# Altium footprint library AMP Footprints.PcbLib: 903 footprints (part 50 of 58)
Each footprint in its own frame and in the unit in brackets; x right, y up, seen from the top. Pads: shape width x height; smd on the part's side, far side on the other; paste and mask are expansions set on the pad; w line width, h text height; cw(c..) or ccw(c..) is an arc to the next point about the centre after c.
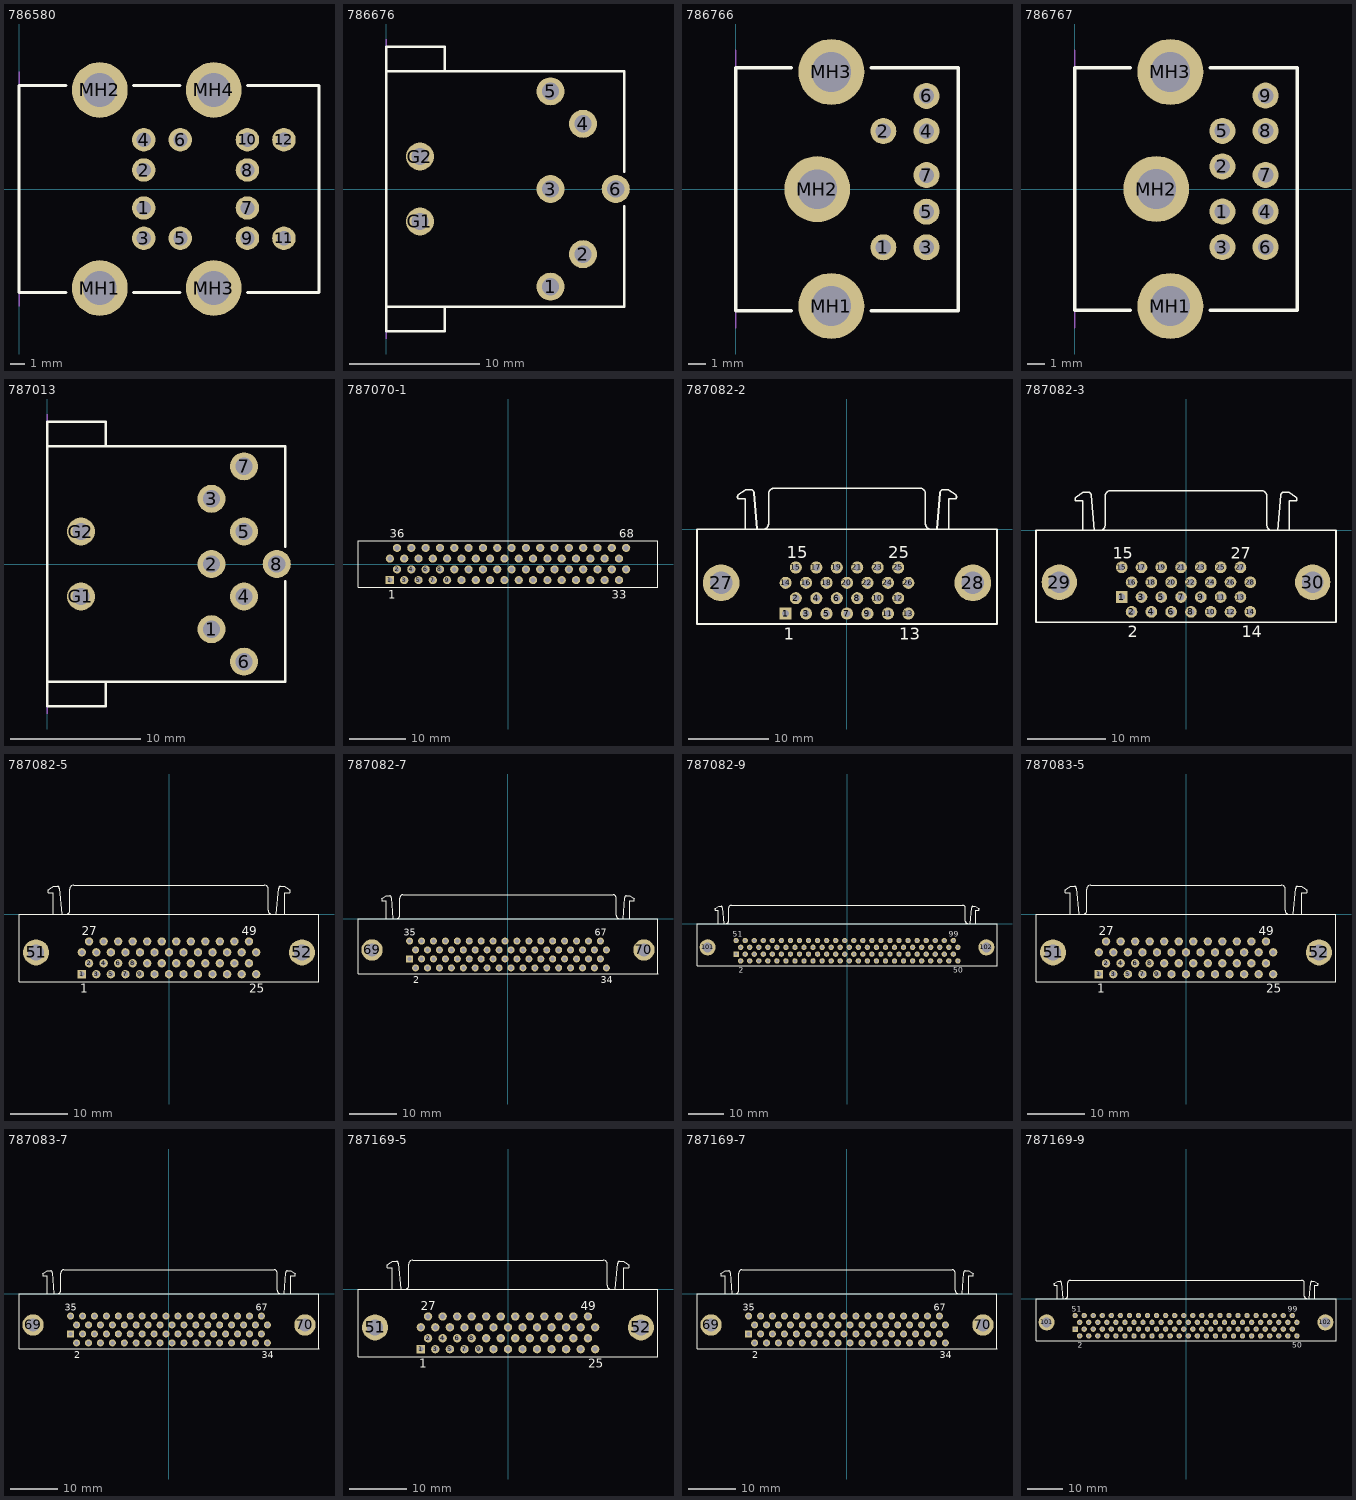
[diagram p49: the footprints below, top view; thin cyan lines are the x and y axes]

## 786580 [mm] "Connector; Circular DIN, Thru-Hole; 6x6 Position; Right Angle; Pitch 2.11/2.59 mm; Body 14.12 x 20.45 x 27.35 mm (WxTxH), Shielded"
height 27.35
pads (16):
  round 1.6 hole 0.97: 1(8.51,-1.295) 2(8.51,1.295) 3(8.51,-3.355) 4(8.51,3.355) 5(11,-3.355) 6(11,3.355) 7(15.57,-1.295) 8(15.57,1.295) 9(15.57,-3.355) 10(15.57,3.355) 11(18.06,-3.355) 12(18.06,3.355)
  round 3.8 hole 2.29: MH1(5.51,-6.75) MH2(5.51,6.75) MH3(13.28,-6.75) MH4(13.28,6.75)
Top Overlay:
  lines w0.2: 3.21,-7.06 0,-7.06 0,7.06 3.21,7.06 ; 7.81,-7.06 10.98,-7.06 ; 7.81,7.06 10.98,7.06 ; 15.58,-7.06 20.45,-7.06 20.45,7.06 15.58,7.06
Mechanical 1:
  lines w0.1: 0,-8 0,8
  text "PCB Edge" at 0.6,-6.7 h0.25

## 786676 [mm] "Connector; Circular DIN, Thru-Hole; 6 Position; Right Angle; Pitch 2.49/2.51 mm; Body 18.03 x 18.26 x 20.83 mm (WxTxH), Shielded, Front panel grounding fingers"
height 20.83
pads (8):
  round 2.15 hole 1.32: 1(12.6,-7.49) 2(15.09,-5) 3(12.6,0) 4(15.09,5) 5(12.6,7.49) 6(17.6,0) G1(2.59,-2.49) G2(2.59,2.49)
Top Overlay:
  lines w0.2: 4.5,-9.015 4.5,-10.92 0,-10.92 0,-9.015 ; 4.5,9.015 4.5,10.92 0,10.92 0,9.015 ; 18.26,-1.33 18.26,-9.015 0,-9.015 ; 18.26,1.33 18.26,9.015 0,9.015 ; 0,-9.015 0,9.015
Mechanical 1:
  lines w0.1: 0,-11.5 0,11.5
  text "PCB Edge" at 0.6,-8.6 h0.25

## 786766 [mm] "Connector; Circular DIN, Thru-Hole; 7 Position; Right Angle; Pitch 2.05/2.6 mm; Body 14 x 12.83 x 13 mm (WxTxH), Shielded, Special PCB Retention"
height 13
pads (10):
  round 1.5 hole 0.89: 1(8.51,-3.35) 2(8.51,3.35) 3(11,-3.35) 4(11,3.35) 5(11,-1.3) 6(11,5.38) 7(11,0.81)
  round 3.8 hole 2.29: MH1(5.51,-6.74) MH2(4.7,0) MH3(5.51,6.76)
Top Overlay:
  lines w0.2: 3.21,-7 0,-7 0,7 3.21,7 ; 7.81,-7 12.83,-7 12.83,7 7.81,7
Mechanical 1:
  lines w0.1: 0,-8 0,8
  text "PCB Edge" at 0.6,-6.7 h0.25

## 786767 [mm] "Connector; Circular DIN, Thru-Hole; 9 Position; Right Angle; Pitch 2.05/2.6 mm; Body 14 x 12.83 x 13 mm (WxTxH), Shielded, Special PCB Retention"
height 13
pads (12):
  round 1.5 hole 0.89: 1(8.51,-1.3) 2(8.51,1.3) 3(8.51,-3.35) 4(11,-1.3) 5(8.51,3.35) 6(11,-3.35) 7(11,0.81) 8(11,3.35) 9(11,5.38)
  round 3.8 hole 2.29: MH1(5.51,-6.745) MH2(4.7,0) MH3(5.51,6.745)
Top Overlay:
  lines w0.2: 3.21,-7 0,-7 0,7 3.21,7 ; 7.81,-7 12.83,-7 12.83,7 7.81,7
Mechanical 1:
  lines w0.1: 0,-8 0,8
  text "PCB Edge" at 0.6,-6.6 h0.25

## 787013 [mm] "Connector; Circular DIN, Thru-Hole; 8 Position; Right Angle; Pitch 2.49/2.51 mm; Body 18.03 x 18.26 x 20.83 mm (WxTxH), Shielded, Front panel grounding fingers"
height 20.83
pads (10):
  round 2.15 hole 1.32: 1(12.6,-5) 2(12.6,0) 3(12.6,5) 4(15.09,-2.49) 5(15.09,2.49) 6(15.09,-7.49) 7(15.09,7.49) 8(17.6,0) G1(2.59,-2.49) G2(2.59,2.49)
Top Overlay:
  lines w0.2: 4.5,-9.015 4.5,-10.92 0,-10.92 0,-9.015 ; 4.5,9.015 4.5,10.92 0,10.92 0,9.015 ; 18.26,-1.33 18.26,-9.015 0,-9.015 ; 18.26,1.33 18.26,9.015 0,9.015 ; 0,-9.015 0,9.015
Mechanical 1:
  lines w0.1: 0,-11.5 0,11.5
  text "PCB Edge" at 0.6,-8.6 h0.25

## 787070-1 [mm] "Connector; D Subminiature 050 Series; 68 Position; Vertical"
height 14.58
pads (68):
  rect 1.46x1.46 hole 0.86: 1(-20.955,-2.857)
  round 1.46 hole 0.86: 2(-19.685,-0.953) 3(-18.415,-2.857) 4(-17.145,-0.953) 5(-15.875,-2.857) 6(-14.605,-0.953) 7(-13.335,-2.857) 8(-12.065,-0.953) 9(-10.795,-2.857) 10(-9.525,-0.953) 11(-8.255,-2.857) 12(-6.985,-0.953) 13(-5.715,-2.857) 14(-4.445,-0.953) 15(-3.175,-2.857) 16(-1.905,-0.953) 17(-0.635,-2.857) 18(0.635,-0.953) 19(1.905,-2.857) 20(3.175,-0.953) 21(4.445,-2.857) 22(5.715,-0.953) 23(6.985,-2.857) 24(8.255,-0.953) 25(9.525,-2.857) 26(10.795,-0.953) 27(12.065,-2.857) 28(13.335,-0.953) 29(14.605,-2.857) 30(15.875,-0.953) 31(17.145,-2.857) 32(18.415,-0.953) 33(19.685,-2.857) 34(20.955,-0.953) 35(-20.955,0.953) 36(-19.685,2.857) 37(-18.415,0.953) 38(-17.145,2.857) 39(-15.875,0.953) 40(-14.605,2.857) 41(-13.335,0.953) 42(-12.065,2.857) 43(-10.795,0.953) 44(-9.525,2.857) 45(-8.255,0.953) 46(-6.985,2.857) 47(-5.715,0.953) 48(-4.445,2.857) 49(-3.175,0.953) 50(-1.905,2.857) 51(-0.635,0.953) 52(0.635,2.857) 53(1.905,0.953) 54(3.175,2.857) 55(4.445,0.953) 56(5.715,2.857) 57(6.985,0.953) 58(8.255,2.857) 59(9.525,0.953) 60(10.795,2.857) 61(12.065,0.953) 62(13.335,2.857) 63(14.605,0.953) 64(15.875,2.857) 65(17.145,0.953) 66(18.415,2.857) 67(19.685,0.953) 68(20.955,2.857)
Top Overlay:
  lines w0.2: -26.605,-4.157 -26.605,4.157 26.605,4.157 26.605,-4.157 -26.605,-4.157
  text "68" at 19.705,4.633 h1.5
  text "36" at -20.935,4.633 h1.5
  text "33" at 18.435,-6.132 h1.5
  text "1" at -21.205,-6.132 h1.5

## 787082-2 [mm] "Connector; D Subminiature 050 Series; 26 Position; Right Angle"
height 10.44
pads (28):
  rect 1.5x1.5 hole 0.86: 1(-7.62,-10.46)
  round 1.5 hole 0.86: 2(-6.35,-8.555) 3(-5.08,-10.46) 4(-3.81,-8.555) 5(-2.54,-10.46) 6(-1.27,-8.555) 7(0,-10.46) 8(1.27,-8.555) 9(2.54,-10.46) 10(3.81,-8.555) 11(5.08,-10.46) 12(6.35,-8.555) 13(7.62,-10.46) 14(-7.62,-6.65) 15(-6.35,-4.745) 16(-5.08,-6.65) 17(-3.81,-4.745) 18(-2.54,-6.65) 19(-1.27,-4.745) 20(0,-6.65) 21(1.27,-4.745) 22(2.54,-6.65) 23(3.81,-4.745) 24(5.08,-6.65) 25(6.35,-4.745) 26(7.62,-6.65)
  round 4.55 hole 2.77: 27(-15.62,-6.65) 28(15.62,-6.65)
Top Overlay:
  lines w0.2: -13.505,4.27 -12.565,4.898 -11.843,4.898 cw(c-11.945,4.5) -11.535,4.5 ; -13.491,4.255 ccw(c-13.265,4.01) -13.515,3.79 -12.635,3.79 -12.635,0 ; -11.535,4.52 -11.165,0 ; -10.425,0.005 ccw(c-10.425,0.7) -9.73,0.7 -9.73,4.4 cw(c-9.035,4.4) -9.035,5.095 ; -9.035,5.11 9.035,5.11 ; 9.035,5.105 cw(c9.035,4.41) 9.73,4.41 9.73,0.7 ccw(c10.425,0.7) 10.425,0.005 ; 11.165,0 11.535,4.52 ; 11.535,4.5 cw(c11.945,4.5) 11.843,4.898 12.565,4.898 13.505,4.27 ; 12.635,0 12.635,3.79 13.515,3.79 ccw(c13.265,4.01) 13.491,4.255 ; -18.615,-11.76 -18.615,0 18.615,0 18.615,-11.76 -18.615,-11.76
  text "25" at 5.1,-3.62 h1.5
  text "15" at -7.475,-3.62 h1.5
  text "13" at 6.495,-13.735 h1.5
  text "1" at -7.87,-13.735 h1.5

## 787082-3 [mm] "Connector; D Subminiature 050 Series; 28 Position; Right Angle"
height 10.44
pads (30):
  rect 1.5x1.5 hole 0.86: 1(-8.255,-8.555)
  round 1.5 hole 0.86: 2(-6.985,-10.46) 3(-5.715,-8.555) 4(-4.445,-10.46) 5(-3.175,-8.555) 6(-1.905,-10.46) 7(-0.635,-8.555) 8(0.635,-10.46) 9(1.905,-8.555) 10(3.175,-10.46) 11(4.445,-8.555) 12(5.715,-10.46) 13(6.985,-8.555) 14(8.255,-10.46) 15(-8.255,-4.745) 16(-6.985,-6.65) 17(-5.715,-4.745) 18(-4.445,-6.65) 19(-3.175,-4.745) 20(-1.905,-6.65) 21(-0.635,-4.745) 22(0.635,-6.65) 23(1.905,-4.745) 24(3.175,-6.65) 25(4.445,-4.745) 26(5.715,-6.65) 27(6.985,-4.745) 28(8.255,-6.65)
  round 4.55 hole 2.77: 29(-16.255,-6.65) 30(16.255,-6.65)
Top Overlay:
  lines w0.2: -14.14,4.27 -13.2,4.898 -12.478,4.898 cw(c-12.58,4.5) -12.17,4.5 ; -14.126,4.255 ccw(c-13.9,4.01) -14.15,3.79 -13.27,3.79 -13.27,0 ; -12.17,4.52 -11.8,0 ; -11.06,0.005 ccw(c-11.06,0.7) -10.365,0.7 -10.365,4.41 cw(c-9.67,4.41) -9.67,5.105 ; -9.67,5.11 9.67,5.11 ; 9.67,5.105 cw(c9.67,4.41) 10.365,4.41 10.365,0.7 ccw(c11.06,0.7) 11.06,0.005 ; 11.8,0 12.17,4.52 ; 12.17,4.5 cw(c12.58,4.5) 12.478,4.898 13.2,4.898 14.14,4.27 ; 13.27,0 13.27,3.79 14.15,3.79 ccw(c13.9,4.01) 14.126,4.255 ; -19.25,-11.76 -19.25,0 19.25,0 19.25,-11.76 -19.25,-11.76
  text "27" at 5.735,-3.62 h1.5
  text "15" at -9.38,-3.62 h1.5
  text "14" at 7.13,-13.735 h1.5
  text "2" at -7.485,-13.735 h1.5

## 787082-5 [mm] "Connector; D Subminiature 050 Series; 50 Position; Right Angle"
height 10.44
pads (52):
  rect 1.46x1.46 hole 0.86: 1(-15.24,-10.46)
  round 1.46 hole 0.86: 2(-13.97,-8.555) 3(-12.7,-10.46) 4(-11.43,-8.555) 5(-10.16,-10.46) 6(-8.89,-8.555) 7(-7.62,-10.46) 8(-6.35,-8.555) 9(-5.08,-10.46) 10(-3.81,-8.555) 11(-2.54,-10.46) 12(-1.27,-8.555) 13(0,-10.46) 14(1.27,-8.555) 15(2.54,-10.46) 16(3.81,-8.555) 17(5.08,-10.46) 18(6.35,-8.555) 19(7.62,-10.46) 20(8.89,-8.555) 21(10.16,-10.46) 22(11.43,-8.555) 23(12.7,-10.46) 24(13.97,-8.555) 25(15.24,-10.46) 26(-15.24,-6.65) 27(-13.97,-4.745) 28(-12.7,-6.65) 29(-11.43,-4.745) 30(-10.16,-6.65) 31(-8.89,-4.745) 32(-7.62,-6.65) 33(-6.35,-4.745) 34(-5.08,-6.65) 35(-3.81,-4.745) 36(-2.54,-6.65) 37(-1.27,-4.745) 38(0,-6.65) 39(1.27,-4.745) 40(2.54,-6.65) 41(3.81,-4.745) 42(5.08,-6.65) 43(6.35,-4.745) 44(7.62,-6.65) 45(8.89,-4.745) 46(10.16,-6.65) 47(11.43,-4.745) 48(12.7,-6.65) 49(13.97,-4.745) 50(15.24,-6.65)
  round 4.55 hole 2.77: 51(-23.24,-6.65) 52(23.24,-6.65)
Top Overlay:
  lines w0.2: -21.125,4.27 -20.185,4.898 -19.463,4.898 cw(c-19.565,4.5) -19.155,4.5 ; -21.111,4.255 ccw(c-20.885,4.01) -21.135,3.79 -20.255,3.79 -20.255,0 ; -19.155,4.52 -18.785,0 ; -18.045,0.015 ccw(c-18.045,0.71) -17.35,0.71 -17.35,4.41 ; -17.345,4.415 cw(c-16.65,4.415) -16.65,5.11 16.65,5.11 cw(c16.65,4.415) 17.345,4.415 ; 17.35,4.41 17.35,0.71 ccw(c18.045,0.71) 18.045,0.015 ; 18.785,0 19.155,4.52 ; 19.155,4.5 cw(c19.565,4.5) 19.463,4.898 20.185,4.898 21.125,4.27 ; 20.255,0 20.255,3.79 21.135,3.79 ccw(c20.885,4.01) 21.111,4.255 ; -26.225,-11.76 -26.225,0 26.225,0 26.225,-11.76 -26.225,-11.76
  text "1" at -15.49,-13.735 h1.5
  text "25" at 13.99,-13.735 h1.5
  text "27" at -15.22,-3.64 h1.5
  text "49" at 12.72,-3.64 h1.5

## 787082-7 [mm] "Connector; D Subminiature 050 Series; 68 Position; Right Angle"
height 10.44
pads (70):
  rect 1.5x1.5 hole 0.86: 1(-20.955,-8.555)
  round 1.5 hole 0.86: 2(-19.685,-10.46) 3(-18.415,-8.555) 4(-17.145,-10.46) 5(-15.875,-8.555) 6(-14.605,-10.46) 7(-13.335,-8.555) 8(-12.065,-10.46) 9(-10.795,-8.555) 10(-9.525,-10.46) 11(-8.255,-8.555) 12(-6.985,-10.46) 13(-5.715,-8.555) 14(-4.445,-10.46) 15(-3.175,-8.555) 16(-1.905,-10.46) 17(-0.635,-8.555) 18(0.635,-10.46) 19(1.905,-8.555) 20(3.175,-10.46) 21(4.445,-8.555) 22(5.715,-10.46) 23(6.985,-8.555) 24(8.255,-10.46) 25(9.525,-8.555) 26(10.795,-10.46) 27(12.065,-8.555) 28(13.335,-10.46) 29(14.605,-8.555) 30(15.875,-10.46) 31(17.145,-8.555) 32(18.415,-10.46) 33(19.685,-8.555) 34(20.955,-10.46) 35(-20.955,-4.745) 36(-19.685,-6.65) 37(-18.415,-4.745) 38(-17.145,-6.65) 39(-15.875,-4.745) 40(-14.605,-6.65) 41(-13.335,-4.745) 42(-12.065,-6.65) 43(-10.795,-4.745) 44(-9.525,-6.65) 45(-8.255,-4.745) 46(-6.985,-6.65) 47(-5.715,-4.745) 48(-4.445,-6.65) 49(-3.175,-4.745) 50(-1.905,-6.65) 51(-0.635,-4.745) 52(0.635,-6.65) 53(1.905,-4.745) 54(3.175,-6.65) 55(4.445,-4.745) 56(5.715,-6.65) 57(6.985,-4.745) 58(8.255,-6.65) 59(9.525,-4.745) 60(10.795,-6.65) 61(12.065,-4.745) 62(13.335,-6.65) 63(14.605,-4.745) 64(15.875,-6.65) 65(17.145,-4.745) 66(18.415,-6.65) 67(19.685,-4.745) 68(20.955,-6.65)
  round 4.55 hole 2.77: 69(-28.955,-6.65) 70(28.955,-6.65)
Top Overlay:
  lines w0.2: -26.84,4.27 -25.9,4.898 -25.178,4.898 cw(c-25.28,4.5) -24.87,4.5 ; -26.826,4.255 ccw(c-26.6,4.01) -26.85,3.79 -25.97,3.79 -25.97,0 ; -24.87,4.52 -24.5,0 ; -23.76,0.005 ccw(c-23.76,0.7) -23.065,0.7 -23.065,4.4 cw(c-22.37,4.4) -22.37,5.095 ; -22.37,5.11 22.37,5.11 ; 22.37,5.095 cw(c22.37,4.4) 23.065,4.4 23.065,0.7 ccw(c23.76,0.7) 23.76,0.005 ; 24.5,0 24.87,4.52 ; 24.87,4.5 cw(c25.28,4.5) 25.178,4.898 25.9,4.898 26.84,4.27 ; 25.97,0 25.97,3.79 26.85,3.79 ccw(c26.6,4.01) 26.826,4.255 ; -31.95,-11.76 31.95,-11.76 31.95,0 -31.95,0 -31.95,-11.76
  text "2" at -20.185,-13.735 h1.5
  text "34" at 19.705,-13.735 h1.5
  text "67" at 18.435,-3.62 h1.5
  text "35" at -22.205,-3.62 h1.5

## 787082-9 [mm] "Connector; D Subminiature 050 Series; 100 Position; Right Angle"
height 10.44
pads (102):
  rect 1.5x1.5 hole 0.86: 1(-31.115,-8.555)
  round 1.5 hole 0.86: 2(-29.845,-10.46) 3(-28.575,-8.555) 4(-27.305,-10.46) 5(-26.035,-8.555) 6(-24.765,-10.46) 7(-23.495,-8.555) 8(-22.225,-10.46) 9(-20.955,-8.555) 10(-19.685,-10.46) 11(-18.415,-8.555) 12(-17.145,-10.46) 13(-15.875,-8.555) 14(-14.605,-10.46) 15(-13.335,-8.555) 16(-12.065,-10.46) 17(-10.795,-8.555) 18(-9.525,-10.46) 19(-8.255,-8.555) 20(-6.985,-10.46) 21(-5.715,-8.555) 22(-4.445,-10.46) 23(-3.175,-8.555) 24(-1.905,-10.46) 25(-0.635,-8.555) 26(0.635,-10.46) 27(1.905,-8.555) 28(3.175,-10.46) 29(4.445,-8.555) 30(5.715,-10.46) 31(6.985,-8.555) 32(8.255,-10.46) 33(9.525,-8.555) 34(10.795,-10.46) 35(12.065,-8.555) 36(13.335,-10.46) 37(14.605,-8.555) 38(15.875,-10.46) 39(17.145,-8.555) 40(18.415,-10.46) 41(19.685,-8.555) 42(20.955,-10.46) 43(22.225,-8.555) 44(23.495,-10.46) 45(24.765,-8.555) 46(26.035,-10.46) 47(27.305,-8.555) 48(28.575,-10.46) 49(29.845,-8.555) 50(31.115,-10.46) 51(-31.115,-4.745) 52(-29.845,-6.65) 53(-28.575,-4.745) 54(-27.305,-6.65) 55(-26.035,-4.745) 56(-24.765,-6.65) 57(-23.495,-4.745) 58(-22.225,-6.65) 59(-20.955,-4.745) 60(-19.685,-6.65) 61(-18.415,-4.745) 62(-17.145,-6.65) 63(-15.875,-4.745) 64(-14.605,-6.65) 65(-13.335,-4.745) 66(-12.065,-6.65) 67(-10.795,-4.745) 68(-9.525,-6.65) 69(-8.255,-4.745) 70(-6.985,-6.65) 71(-5.715,-4.745) 72(-4.445,-6.65) 73(-3.175,-4.745) 74(-1.905,-6.65) 75(-0.635,-4.745) 76(0.635,-6.65) 77(1.905,-4.745) 78(3.175,-6.65) 79(4.445,-4.745) 80(5.715,-6.65) 81(6.985,-4.745) 82(8.255,-6.65) 83(9.525,-4.745) 84(10.795,-6.65) 85(12.065,-4.745) 86(13.335,-6.65) 87(14.605,-4.745) 88(15.875,-6.65) 89(17.145,-4.745) 90(18.415,-6.65) 91(19.685,-4.745) 92(20.955,-6.65) 93(22.225,-4.745) 94(23.495,-6.65) 95(24.765,-4.745) 96(26.035,-6.65) 97(27.305,-4.745) 98(28.575,-6.65) 99(29.845,-4.745) 100(31.115,-6.65)
  round 4.55 hole 2.77: 101(-39.115,-6.65) 102(39.115,-6.65)
Top Overlay:
  lines w0.2: -37,4.27 -36.06,4.898 -35.338,4.898 cw(c-35.44,4.5) -35.03,4.5 ; -36.986,4.255 ccw(c-36.76,4.01) -37.01,3.79 -36.13,3.79 -36.13,0 ; -35.03,4.52 -34.66,0 ; -33.92,0.005 ccw(c-33.92,0.7) -33.225,0.7 -33.225,4.415 cw(c-32.53,4.415) -32.53,5.11 32.53,5.11 cw(c32.53,4.415) 33.225,4.415 33.225,0.7 ccw(c33.92,0.7) 33.92,0.005 ; 34.66,0 35.03,4.52 ; 35.03,4.5 cw(c35.44,4.5) 35.338,4.898 36.06,4.898 37,4.27 ; 36.13,0 36.13,3.79 37.01,3.79 ccw(c36.76,4.01) 36.986,4.255 ; -42.1,-11.76 -42.1,0 42.1,0 42.1,-11.76 -42.1,-11.76
  text "2" at -30.345,-13.735 h1.5
  text "50" at 29.865,-13.735 h1.5
  text "51" at -32.115,-3.62 h1.5
  text "99" at 28.595,-3.62 h1.5

## 787083-5 [mm] "Connector; D Subminiature 050 Series; 50 Position; Right Angle"
height 10.44
pads (52):
  rect 1.46x1.46 hole 0.86: 1(-15.24,-10.46)
  round 1.46 hole 0.86: 2(-13.97,-8.555) 3(-12.7,-10.46) 4(-11.43,-8.555) 5(-10.16,-10.46) 6(-8.89,-8.555) 7(-7.62,-10.46) 8(-6.35,-8.555) 9(-5.08,-10.46) 10(-3.81,-8.555) 11(-2.54,-10.46) 12(-1.27,-8.555) 13(0,-10.46) 14(1.27,-8.555) 15(2.54,-10.46) 16(3.81,-8.555) 17(5.08,-10.46) 18(6.35,-8.555) 19(7.62,-10.46) 20(8.89,-8.555) 21(10.16,-10.46) 22(11.43,-8.555) 23(12.7,-10.46) 24(13.97,-8.555) 25(15.24,-10.46) 26(-15.24,-6.65) 27(-13.97,-4.745) 28(-12.7,-6.65) 29(-11.43,-4.745) 30(-10.16,-6.65) 31(-8.89,-4.745) 32(-7.62,-6.65) 33(-6.35,-4.745) 34(-5.08,-6.65) 35(-3.81,-4.745) 36(-2.54,-6.65) 37(-1.27,-4.745) 38(0,-6.65) 39(1.27,-4.745) 40(2.54,-6.65) 41(3.81,-4.745) 42(5.08,-6.65) 43(6.35,-4.745) 44(7.62,-6.65) 45(8.89,-4.745) 46(10.16,-6.65) 47(11.43,-4.745) 48(12.7,-6.65) 49(13.97,-4.745) 50(15.24,-6.65)
  round 4.55 hole 2.77: 51(-23.24,-6.65) 52(23.24,-6.65)
Top Overlay:
  lines w0.2: -21.125,4.27 -20.185,4.898 -19.463,4.898 cw(c-19.565,4.5) -19.155,4.5 ; -21.111,4.255 ccw(c-20.885,4.01) -21.135,3.79 -20.255,3.79 -20.255,0 ; -19.155,4.52 -18.785,0 ; -18.045,0.015 ccw(c-18.045,0.71) -17.35,0.71 -17.35,4.41 ; -17.345,4.415 cw(c-16.65,4.415) -16.65,5.11 16.65,5.11 cw(c16.65,4.415) 17.345,4.415 ; 17.35,4.41 17.35,0.71 ccw(c18.045,0.71) 18.045,0.015 ; 18.785,0 19.155,4.52 ; 19.155,4.5 cw(c19.565,4.5) 19.463,4.898 20.185,4.898 21.125,4.27 ; 20.255,0 20.255,3.79 21.135,3.79 ccw(c20.885,4.01) 21.111,4.255 ; -26.225,-11.76 -26.225,0 26.225,0 26.225,-11.76 -26.225,-11.76
  text "1" at -15.49,-13.735 h1.5
  text "25" at 13.99,-13.735 h1.5
  text "27" at -15.22,-3.64 h1.5
  text "49" at 12.72,-3.64 h1.5

## 787083-7 [mm] "Connector; D Subminiature 050 Series; 68 Position; Right Angle"
height 10.44
pads (70):
  rect 1.5x1.5 hole 0.86: 1(-20.955,-8.555)
  round 1.5 hole 0.86: 2(-19.685,-10.46) 3(-18.415,-8.555) 4(-17.145,-10.46) 5(-15.875,-8.555) 6(-14.605,-10.46) 7(-13.335,-8.555) 8(-12.065,-10.46) 9(-10.795,-8.555) 10(-9.525,-10.46) 11(-8.255,-8.555) 12(-6.985,-10.46) 13(-5.715,-8.555) 14(-4.445,-10.46) 15(-3.175,-8.555) 16(-1.905,-10.46) 17(-0.635,-8.555) 18(0.635,-10.46) 19(1.905,-8.555) 20(3.175,-10.46) 21(4.445,-8.555) 22(5.715,-10.46) 23(6.985,-8.555) 24(8.255,-10.46) 25(9.525,-8.555) 26(10.795,-10.46) 27(12.065,-8.555) 28(13.335,-10.46) 29(14.605,-8.555) 30(15.875,-10.46) 31(17.145,-8.555) 32(18.415,-10.46) 33(19.685,-8.555) 34(20.955,-10.46) 35(-20.955,-4.745) 36(-19.685,-6.65) 37(-18.415,-4.745) 38(-17.145,-6.65) 39(-15.875,-4.745) 40(-14.605,-6.65) 41(-13.335,-4.745) 42(-12.065,-6.65) 43(-10.795,-4.745) 44(-9.525,-6.65) 45(-8.255,-4.745) 46(-6.985,-6.65) 47(-5.715,-4.745) 48(-4.445,-6.65) 49(-3.175,-4.745) 50(-1.905,-6.65) 51(-0.635,-4.745) 52(0.635,-6.65) 53(1.905,-4.745) 54(3.175,-6.65) 55(4.445,-4.745) 56(5.715,-6.65) 57(6.985,-4.745) 58(8.255,-6.65) 59(9.525,-4.745) 60(10.795,-6.65) 61(12.065,-4.745) 62(13.335,-6.65) 63(14.605,-4.745) 64(15.875,-6.65) 65(17.145,-4.745) 66(18.415,-6.65) 67(19.685,-4.745) 68(20.955,-6.65)
  round 4.55 hole 2.77: 69(-28.955,-6.65) 70(28.955,-6.65)
Top Overlay:
  lines w0.2: -26.84,4.27 -25.9,4.898 -25.178,4.898 cw(c-25.28,4.5) -24.87,4.5 ; -26.826,4.255 ccw(c-26.6,4.01) -26.85,3.79 -25.97,3.79 -25.97,0 ; -24.87,4.52 -24.5,0 ; -23.76,0.005 ccw(c-23.76,0.7) -23.065,0.7 -23.065,4.4 cw(c-22.37,4.4) -22.37,5.095 ; -22.37,5.11 22.37,5.11 ; 22.37,5.095 cw(c22.37,4.4) 23.065,4.4 23.065,0.7 ccw(c23.76,0.7) 23.76,0.005 ; 24.5,0 24.87,4.52 ; 24.87,4.5 cw(c25.28,4.5) 25.178,4.898 25.9,4.898 26.84,4.27 ; 25.97,0 25.97,3.79 26.85,3.79 ccw(c26.6,4.01) 26.826,4.255 ; -31.95,-11.76 31.95,-11.76 31.95,0 -31.95,0 -31.95,-11.76
  text "2" at -20.185,-13.735 h1.5
  text "34" at 19.705,-13.735 h1.5
  text "67" at 18.435,-3.62 h1.5
  text "35" at -22.205,-3.62 h1.5

## 787169-5 [mm] "Connector; D Subminiature 050 Series; 50 Position; Right Angle"
height 10.44
pads (52):
  rect 1.46x1.46 hole 0.86: 1(-15.24,-10.46)
  round 1.46 hole 0.86: 2(-13.97,-8.555) 3(-12.7,-10.46) 4(-11.43,-8.555) 5(-10.16,-10.46) 6(-8.89,-8.555) 7(-7.62,-10.46) 8(-6.35,-8.555) 9(-5.08,-10.46) 10(-3.81,-8.555) 11(-2.54,-10.46) 12(-1.27,-8.555) 13(0,-10.46) 14(1.27,-8.555) 15(2.54,-10.46) 16(3.81,-8.555) 17(5.08,-10.46) 18(6.35,-8.555) 19(7.62,-10.46) 20(8.89,-8.555) 21(10.16,-10.46) 22(11.43,-8.555) 23(12.7,-10.46) 24(13.97,-8.555) 25(15.24,-10.46) 26(-15.24,-6.65) 27(-13.97,-4.745) 28(-12.7,-6.65) 29(-11.43,-4.745) 30(-10.16,-6.65) 31(-8.89,-4.745) 32(-7.62,-6.65) 33(-6.35,-4.745) 34(-5.08,-6.65) 35(-3.81,-4.745) 36(-2.54,-6.65) 37(-1.27,-4.745) 38(0,-6.65) 39(1.27,-4.745) 40(2.54,-6.65) 41(3.81,-4.745) 42(5.08,-6.65) 43(6.35,-4.745) 44(7.62,-6.65) 45(8.89,-4.745) 46(10.16,-6.65) 47(11.43,-4.745) 48(12.7,-6.65) 49(13.97,-4.745) 50(15.24,-6.65)
  round 4.55 hole 2.77: 51(-23.24,-6.65) 52(23.24,-6.65)
Top Overlay:
  lines w0.2: -21.125,4.27 -20.185,4.898 -19.463,4.898 cw(c-19.565,4.5) -19.155,4.5 ; -21.111,4.255 ccw(c-20.885,4.01) -21.135,3.79 -20.255,3.79 -20.255,0 ; -19.155,4.52 -18.785,0 ; -18.045,0.015 ccw(c-18.045,0.71) -17.35,0.71 -17.35,4.41 ; -17.345,4.415 cw(c-16.65,4.415) -16.65,5.11 16.65,5.11 cw(c16.65,4.415) 17.345,4.415 ; 17.35,4.41 17.35,0.71 ccw(c18.045,0.71) 18.045,0.015 ; 18.785,0 19.155,4.52 ; 19.155,4.5 cw(c19.565,4.5) 19.463,4.898 20.185,4.898 21.125,4.27 ; 20.255,0 20.255,3.79 21.135,3.79 ccw(c20.885,4.01) 21.111,4.255 ; -26.225,-11.76 -26.225,0 26.225,0 26.225,-11.76 -26.225,-11.76
  text "1" at -15.49,-13.735 h1.5
  text "25" at 13.99,-13.735 h1.5
  text "27" at -15.22,-3.64 h1.5
  text "49" at 12.72,-3.64 h1.5

## 787169-7 [mm] "Connector; D Subminiature 050 Series; 68 Position; Right Angle"
height 10.44
pads (70):
  rect 1.5x1.5 hole 0.86: 1(-20.955,-8.555)
  round 1.5 hole 0.86: 2(-19.685,-10.46) 3(-18.415,-8.555) 4(-17.145,-10.46) 5(-15.875,-8.555) 6(-14.605,-10.46) 7(-13.335,-8.555) 8(-12.065,-10.46) 9(-10.795,-8.555) 10(-9.525,-10.46) 11(-8.255,-8.555) 12(-6.985,-10.46) 13(-5.715,-8.555) 14(-4.445,-10.46) 15(-3.175,-8.555) 16(-1.905,-10.46) 17(-0.635,-8.555) 18(0.635,-10.46) 19(1.905,-8.555) 20(3.175,-10.46) 21(4.445,-8.555) 22(5.715,-10.46) 23(6.985,-8.555) 24(8.255,-10.46) 25(9.525,-8.555) 26(10.795,-10.46) 27(12.065,-8.555) 28(13.335,-10.46) 29(14.605,-8.555) 30(15.875,-10.46) 31(17.145,-8.555) 32(18.415,-10.46) 33(19.685,-8.555) 34(20.955,-10.46) 35(-20.955,-4.745) 36(-19.685,-6.65) 37(-18.415,-4.745) 38(-17.145,-6.65) 39(-15.875,-4.745) 40(-14.605,-6.65) 41(-13.335,-4.745) 42(-12.065,-6.65) 43(-10.795,-4.745) 44(-9.525,-6.65) 45(-8.255,-4.745) 46(-6.985,-6.65) 47(-5.715,-4.745) 48(-4.445,-6.65) 49(-3.175,-4.745) 50(-1.905,-6.65) 51(-0.635,-4.745) 52(0.635,-6.65) 53(1.905,-4.745) 54(3.175,-6.65) 55(4.445,-4.745) 56(5.715,-6.65) 57(6.985,-4.745) 58(8.255,-6.65) 59(9.525,-4.745) 60(10.795,-6.65) 61(12.065,-4.745) 62(13.335,-6.65) 63(14.605,-4.745) 64(15.875,-6.65) 65(17.145,-4.745) 66(18.415,-6.65) 67(19.685,-4.745) 68(20.955,-6.65)
  round 4.55 hole 2.77: 69(-28.955,-6.65) 70(28.955,-6.65)
Top Overlay:
  lines w0.2: -26.84,4.27 -25.9,4.898 -25.178,4.898 cw(c-25.28,4.5) -24.87,4.5 ; -26.826,4.255 ccw(c-26.6,4.01) -26.85,3.79 -25.97,3.79 -25.97,0 ; -24.87,4.52 -24.5,0 ; -23.76,0.005 ccw(c-23.76,0.7) -23.065,0.7 -23.065,4.4 cw(c-22.37,4.4) -22.37,5.095 ; -22.37,5.11 22.37,5.11 ; 22.37,5.095 cw(c22.37,4.4) 23.065,4.4 23.065,0.7 ccw(c23.76,0.7) 23.76,0.005 ; 24.5,0 24.87,4.52 ; 24.87,4.5 cw(c25.28,4.5) 25.178,4.898 25.9,4.898 26.84,4.27 ; 25.97,0 25.97,3.79 26.85,3.79 ccw(c26.6,4.01) 26.826,4.255 ; -31.95,-11.76 31.95,-11.76 31.95,0 -31.95,0 -31.95,-11.76
  text "2" at -20.185,-13.735 h1.5
  text "34" at 19.705,-13.735 h1.5
  text "67" at 18.435,-3.62 h1.5
  text "35" at -22.205,-3.62 h1.5

## 787169-9 [mm] "Connector; D Subminiature 050 Series; 100 Position; Right Angle"
height 10.44
pads (102):
  rect 1.5x1.5 hole 0.86: 1(-31.115,-8.555)
  round 1.5 hole 0.86: 2(-29.845,-10.46) 3(-28.575,-8.555) 4(-27.305,-10.46) 5(-26.035,-8.555) 6(-24.765,-10.46) 7(-23.495,-8.555) 8(-22.225,-10.46) 9(-20.955,-8.555) 10(-19.685,-10.46) 11(-18.415,-8.555) 12(-17.145,-10.46) 13(-15.875,-8.555) 14(-14.605,-10.46) 15(-13.335,-8.555) 16(-12.065,-10.46) 17(-10.795,-8.555) 18(-9.525,-10.46) 19(-8.255,-8.555) 20(-6.985,-10.46) 21(-5.715,-8.555) 22(-4.445,-10.46) 23(-3.175,-8.555) 24(-1.905,-10.46) 25(-0.635,-8.555) 26(0.635,-10.46) 27(1.905,-8.555) 28(3.175,-10.46) 29(4.445,-8.555) 30(5.715,-10.46) 31(6.985,-8.555) 32(8.255,-10.46) 33(9.525,-8.555) 34(10.795,-10.46) 35(12.065,-8.555) 36(13.335,-10.46) 37(14.605,-8.555) 38(15.875,-10.46) 39(17.145,-8.555) 40(18.415,-10.46) 41(19.685,-8.555) 42(20.955,-10.46) 43(22.225,-8.555) 44(23.495,-10.46) 45(24.765,-8.555) 46(26.035,-10.46) 47(27.305,-8.555) 48(28.575,-10.46) 49(29.845,-8.555) 50(31.115,-10.46) 51(-31.115,-4.745) 52(-29.845,-6.65) 53(-28.575,-4.745) 54(-27.305,-6.65) 55(-26.035,-4.745) 56(-24.765,-6.65) 57(-23.495,-4.745) 58(-22.225,-6.65) 59(-20.955,-4.745) 60(-19.685,-6.65) 61(-18.415,-4.745) 62(-17.145,-6.65) 63(-15.875,-4.745) 64(-14.605,-6.65) 65(-13.335,-4.745) 66(-12.065,-6.65) 67(-10.795,-4.745) 68(-9.525,-6.65) 69(-8.255,-4.745) 70(-6.985,-6.65) 71(-5.715,-4.745) 72(-4.445,-6.65) 73(-3.175,-4.745) 74(-1.905,-6.65) 75(-0.635,-4.745) 76(0.635,-6.65) 77(1.905,-4.745) 78(3.175,-6.65) 79(4.445,-4.745) 80(5.715,-6.65) 81(6.985,-4.745) 82(8.255,-6.65) 83(9.525,-4.745) 84(10.795,-6.65) 85(12.065,-4.745) 86(13.335,-6.65) 87(14.605,-4.745) 88(15.875,-6.65) 89(17.145,-4.745) 90(18.415,-6.65) 91(19.685,-4.745) 92(20.955,-6.65) 93(22.225,-4.745) 94(23.495,-6.65) 95(24.765,-4.745) 96(26.035,-6.65) 97(27.305,-4.745) 98(28.575,-6.65) 99(29.845,-4.745) 100(31.115,-6.65)
  round 4.55 hole 2.77: 101(-39.115,-6.65) 102(39.115,-6.65)
Top Overlay:
  lines w0.2: -37,4.27 -36.06,4.898 -35.338,4.898 cw(c-35.44,4.5) -35.03,4.5 ; -36.986,4.255 ccw(c-36.76,4.01) -37.01,3.79 -36.13,3.79 -36.13,0 ; -35.03,4.52 -34.66,0 ; -33.92,0.005 ccw(c-33.92,0.7) -33.225,0.7 -33.225,4.415 cw(c-32.53,4.415) -32.53,5.11 32.53,5.11 cw(c32.53,4.415) 33.225,4.415 33.225,0.7 ccw(c33.92,0.7) 33.92,0.005 ; 34.66,0 35.03,4.52 ; 35.03,4.5 cw(c35.44,4.5) 35.338,4.898 36.06,4.898 37,4.27 ; 36.13,0 36.13,3.79 37.01,3.79 ccw(c36.76,4.01) 36.986,4.255 ; -42.1,-11.76 -42.1,0 42.1,0 42.1,-11.76 -42.1,-11.76
  text "2" at -30.345,-13.735 h1.5
  text "50" at 29.865,-13.735 h1.5
  text "51" at -32.115,-3.62 h1.5
  text "99" at 28.595,-3.62 h1.5